# Altium footprint library MSOP.PcbLib: 1 footprints
Each footprint in its own frame and in the unit in brackets; x right, y up, seen from the top. Pads: shape width x height; smd on the part's side, far side on the other; paste and mask are expansions set on the pad; w line width, h text height; cw(c..) or ccw(c..) is an arc to the next point about the centre after c.
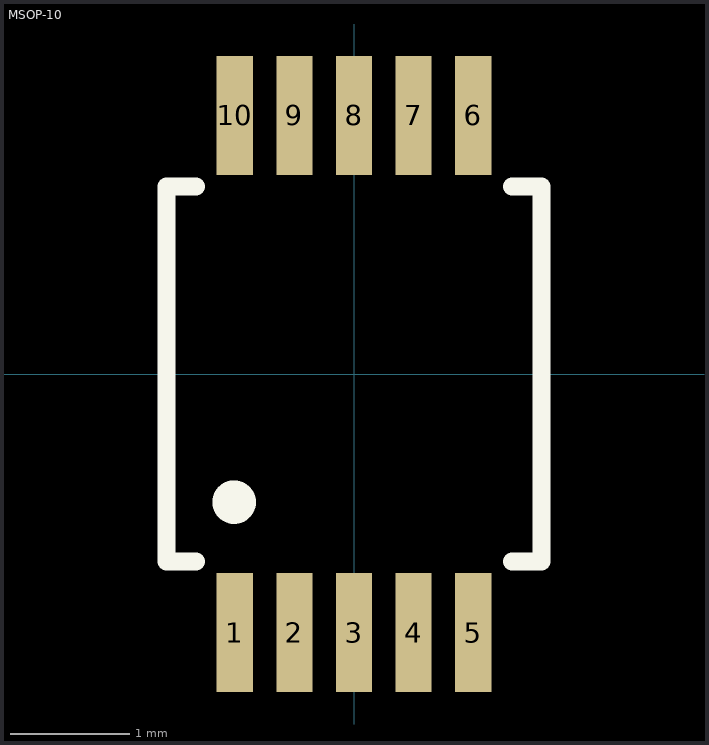
[diagram p0: the footprint, top view; thin cyan lines are the x and y axes]

## MSOP-10 [mm] "MSOP-10 (MS-10) 3mmx3mm body (LTC Reference 05-08-1661)"
height 1
pads (10):
  rect 0.305x1 smd mask+0.075: 1(-1,-2.171) 2(-0.5,-2.171) 3(0,-2.171) 4(0.5,-2.171) 5(1,-2.171) 6(1,2.171) 7(0.5,2.171) 8(0,2.171) 9(-0.5,2.171) 10(-1,2.171)
Top Overlay:
  circle w0.254: c-1.006,-1.075 r0.056
  lines w0.152: -1.325,-1.575 -1.575,-1.575 -1.575,1.575 -1.325,1.575 ; 1.325,-1.575 1.575,-1.575 1.575,1.575 1.325,1.575
3D body: height 1.1, standoff 0.1, extent -1.5,-1.5 1.5,1.5